# Altium footprint library PCBLib.PcbLib: 168 footprints (part 4 of 11)
Each footprint in its own frame and in the unit in brackets; x right, y up, seen from the top. Pads: shape width x height; smd on the part's side, far side on the other; paste and mask are expansions set on the pad; w line width, h text height; cw(c..) or ccw(c..) is an arc to the next point about the centre after c.
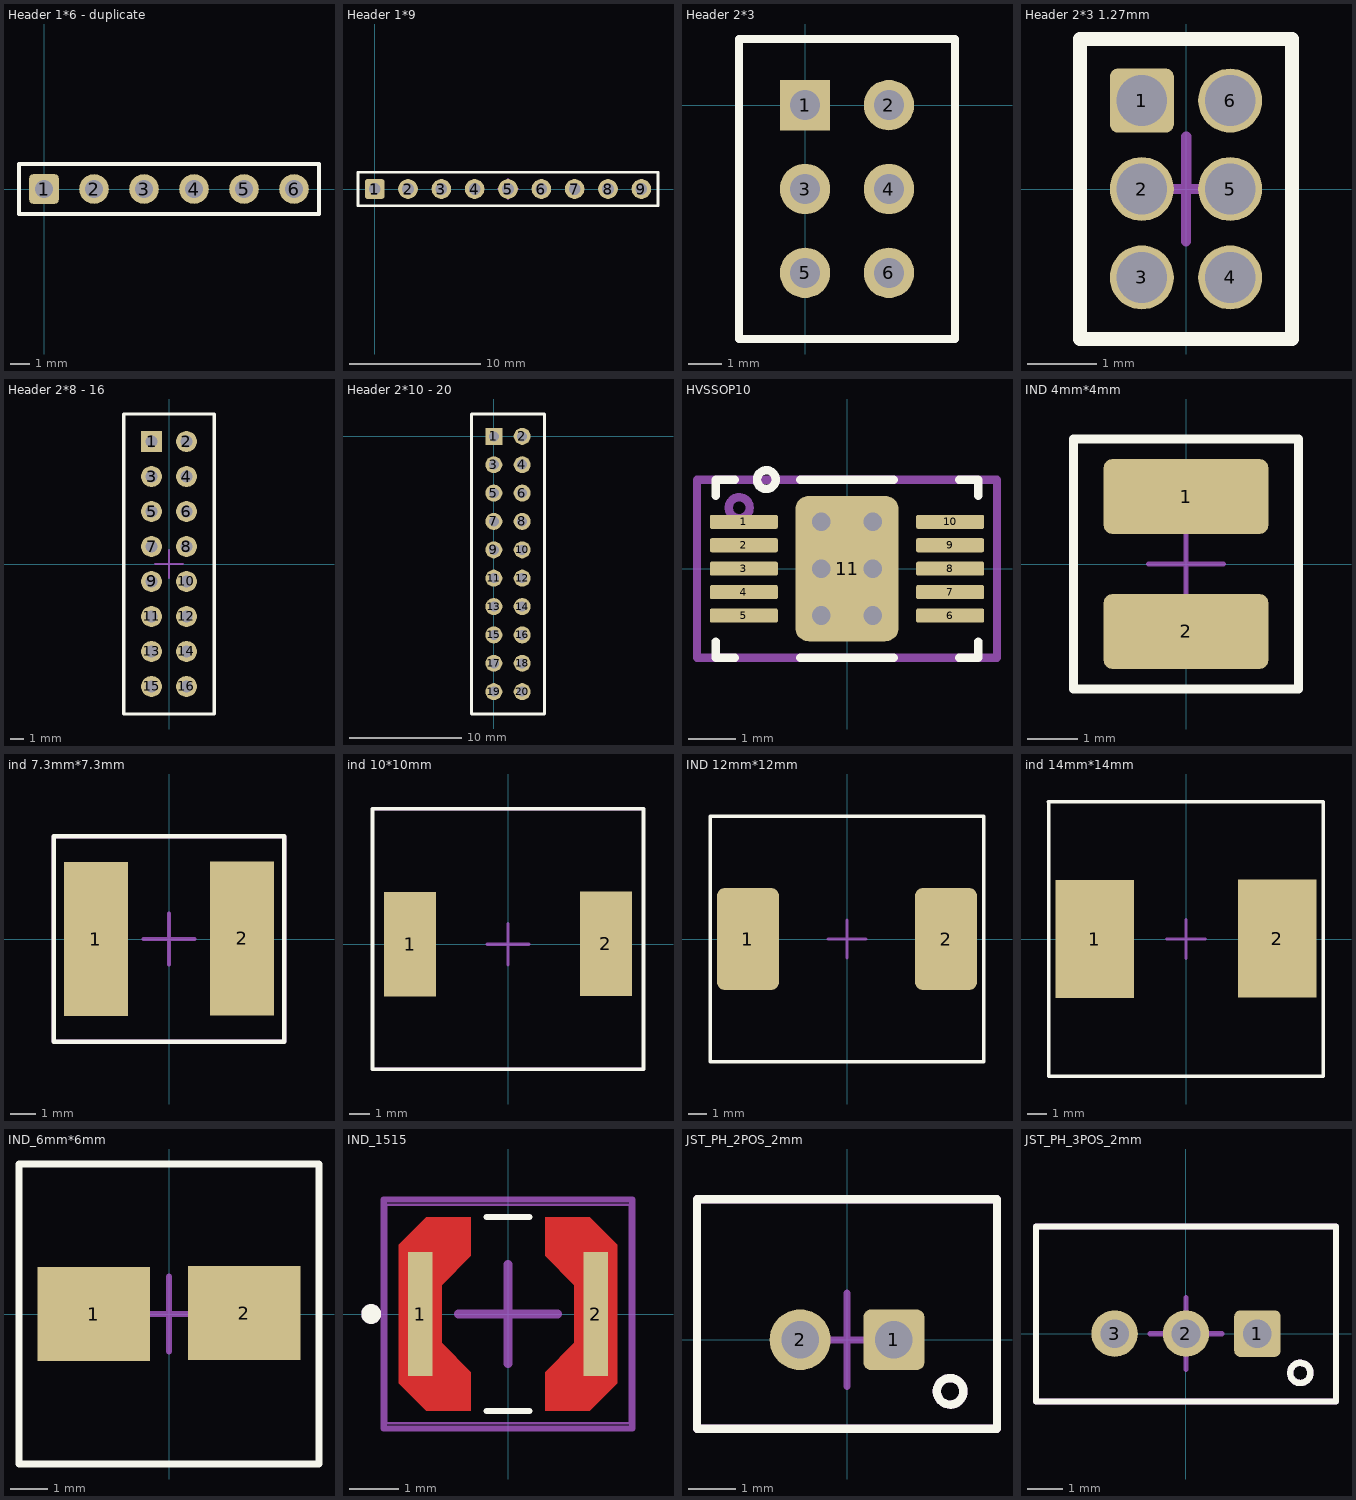
[diagram p3: the footprints below, top view; thin cyan lines are the x and y axes]

## Header 1*6 - duplicate [mm]
pads (6):
  rrect25% 1.5x1.5 hole 0.9 mask+0.05: 1(0,0)
  round 1.5 hole 0.9 mask+0.05: 2(2.54,0) 3(5.08,0) 4(7.62,0) 5(10.16,0) 6(12.7,0)
Top Overlay:
  lines w0.2: -1.27,-1.27 -1.27,1.27 13.97,1.27 13.97,-1.27 -1.27,-1.27

## Header 1*9 [mm]
pads (9):
  rrect25% 1.5x1.5 hole 0.9 mask+0.05: 1(0,0)
  round 1.5 hole 0.9 mask+0.05: 2(2.54,0) 3(5.08,0) 4(7.62,0) 5(10.16,0) 6(12.7,0) 7(15.24,0) 8(17.78,0) 9(20.32,0)
Top Overlay:
  lines w0.2: -1.27,-1.27 21.59,-1.27 21.59,1.27 -1.27,1.27 -1.27,-1.27
Bottom Overlay:
  lines w0.2: -1.27,-1.27 21.59,-1.27 21.59,1.27 -1.27,1.27 -1.27,-1.27
Top Assembly:
  lines w0.1: -1.27,-1.27 -1.27,1.27 21.59,1.27 21.59,-1.27 -1.27,-1.27
Bottom Assembly:
  lines w0.1: -1.27,-1.27 -1.27,1.27 21.59,1.27 21.59,-1.27 -1.27,-1.27
Top Component Center:
  lines w0.15: 9.41,0 10.16,0 ; 10.16,-0.75 10.16,0 ; 10.16,0.75 10.16,0 ; 10.91,0 10.16,0
Bottom Component Center:
  lines w0.15: 9.41,0 10.16,0 ; 10.16,-0.75 10.16,0 ; 10.16,0.75 10.16,0 ; 10.91,0 10.16,0
Top Courtyard:
  lines w0.1: -1.27,-1.27 21.59,-1.27 21.59,1.27 -1.27,1.27 -1.27,-1.27
Bottom Courtyard:
  lines w0.1: -1.27,-1.27 21.59,-1.27 21.59,1.27 -1.27,1.27 -1.27,-1.27
Top Designator:
  text ".Designator" at 6.351,-0.254 h0.76

## Header 2*3 [mil]
pads (6):
  rect 60x60 hole 35.43: 1(0,0)
  round 60 hole 35.43: 2(100,0) 3(0,-100) 4(100,-100) 5(0,-200) 6(100,-200)
Top Overlay:
  lines w10: -78.74,-278.74 178.74,-278.74 178.74,78.74 -78.74,78.74 -78.74,-278.74

## Header 2*3 1.27mm [mm]
pads (6):
  rrect25% 0.92x0.92 hole 0.73 mask+0.05: 1(-0.635,1.27)
  round 0.92 hole 0.73 mask+0.05: 2(-0.635,0) 3(-0.635,-1.27) 4(0.635,-1.27) 5(0.635,0) 6(0.635,1.27)
Top Overlay:
  lines w0.2: -1.52,-2.155 -1.52,2.155 1.52,2.155 1.52,-2.155 -1.52,-2.155
Bottom Overlay:
  lines w0.2: -1.52,-2.155 -1.52,2.155 1.52,2.155 1.52,-2.155 -1.52,-2.155
Top Assembly:
  lines w0.1: -1.52,-2.155 1.52,-2.155 1.52,2.155 -1.52,2.155 -1.52,-2.155
Bottom Assembly:
  lines w0.1: -1.52,-2.155 1.52,-2.155 1.52,2.155 -1.52,2.155 -1.52,-2.155
Top Component Center:
  lines w0.15: -0.749,0 0.001,0 ; 0,-0.75 0,0 ; 0.001,0.75 0.001,0 ; 0.751,0 0.001,0
Bottom Component Center:
  lines w0.15: -0.75,0 0,0 ; 0,-0.75 0,0 ; 0,0.75 0,0 ; 0.75,0 0,0
Top Courtyard:
  lines w0.1: -1.52,-2.155 -1.52,2.155 1.52,2.155 1.52,-2.155 -1.52,-2.155
Bottom Courtyard:
  lines w0.1: -1.52,-2.155 -1.52,2.155 1.52,2.155 1.52,-2.155 -1.52,-2.155
Top Designator:
  text ".Designator" at -3.809,-0.254 h0.76

## Header 2*8 - 16 [mil]
pads (16):
  rect 60x60 hole 35.43: 1(-50,350)
  round 60 hole 35.43: 2(50,350) 3(-50,250) 4(50,250) 5(-50,150) 6(50,150) 7(-50,50) 8(50,50) 9(-50,-50) 10(50,-50) 11(-50,-150) 12(50,-150) 13(-50,-250) 14(50,-250) 15(-50,-350) 16(50,-350)
Top Overlay:
  lines w10: -128.74,-428.74 128.74,-428.74 128.74,428.74 -128.74,428.74 -128.74,-428.74
Top Assembly:
  lines w7.09: -128.74,-428.74 128.74,-428.74 128.74,428.74 -128.74,428.74 -128.74,-428.74
Top Component Center:
  lines w7.09: -39.37,0 39.37,0 ; 0,-39.37 0,39.37
Top Courtyard:
  lines w1.97: -128.74,-428.74 128.74,-428.74 128.74,428.74 -128.74,428.74 -128.74,-428.74
Top Designator:
  text ".Designator" at -9.72,149.95 h30

## Header 2*10 - 20 [mil]
pads (20):
  rect 60x60 hole 35.43: 1(0,0)
  round 60 hole 35.43: 2(100,0) 3(0,-100) 4(100,-100) 5(0,-200) 6(100,-200) 7(0,-300) 8(100,-300) 9(0,-400) 10(100,-400) 11(0,-500) 12(100,-500) 13(0,-600) 14(100,-600) 15(0,-700) 16(100,-700) 17(0,-800) 18(100,-800) 19(0,-900) 20(100,-900)
Top Overlay:
  lines w10: -78.74,-978.74 -78.74,78.74 178.74,78.74 178.74,-978.74 -78.74,-978.74

## HVSSOP10 [mm]
pads (11):
  rrect25% 1.45x0.3 smd mask+0.05: 1(-2.2,1) 2(-2.2,0.5) 3(-2.2,0) 4(-2.2,-0.5) 5(-2.2,-1) 6(2.2,-1) 7(2.2,-0.5) 8(2.2,0) 9(2.2,0.5) 10(2.2,1)
  rrect25% 2.2x3.1 smd paste-2539.97 mask+0.05: 11(0,0)
via -0.55,0 diameter 0.65 hole 0.4
via 0.55,0 diameter 0.65 hole 0.4
via 0.55,1 diameter 0.65 hole 0.4
via -0.55,1 diameter 0.65 hole 0.4
via -0.55,-1 diameter 0.65 hole 0.4
via 0.55,-1 diameter 0.65 hole 0.4
Top Overlay:
  circle w0.18: c-1.721,1.9 r0.2
  lines w0.18: -2.8,-1.553 -2.8,-1.9 -2.39,-1.9 ; -2.8,1.553 -2.8,1.9 -2.39,1.9 ; -1,-1.9 1,-1.9 ; -1,1.9 1,1.9 ; 2.39,-1.9 2.8,-1.9 2.8,-1.553 ; 2.39,1.9 2.8,1.9 2.8,1.553
Top Paste:
  region: -0.915,-0.853 -0.915,0.853 -0.915,0.872 -0.901,0.905 -0.875,0.931 -0.842,0.945 -0.823,0.945 0.823,0.945 0.842,0.945 0.875,0.931 0.901,0.905 0.915,0.872 0.915,0.853 0.915,-0.853 0.915,-0.872 0.901,-0.905 0.875,-0.931 0.842,-0.945 0.823,-0.945 -0.823,-0.945 -0.842,-0.945 -0.875,-0.931 -0.901,-0.905 -0.915,-0.872
Top Assembly:
  circle w0.18: c-2.3,1.3 r0.224
  lines w0.18: -3.2,-1.9 -3.2,1.9 3.2,1.9 3.2,-1.9 -3.2,-1.9
Top Component Center:
  lines w0.18: -1,0 1,0 ; 0,-1 0,1
Top Courtyard:
  lines w0.05: -3.2,-1.9 -3.2,1.9 3.2,1.9 3.2,-1.9 -3.2,-1.9
Top Designator:
  text ".Designator" at -3.809,-0.254 h0.76
3D body "DGQ0010D.stp": height 0.96, standoff 0, extent -2.463,-1.5 2.463,1.5

## IND 4mm*4mm [mm] "744031004"
pads (2):
  rrect25% 3.3x1.5 smd mask+0.05: 1(0,1.35) 2(0,-1.35)
Top Overlay:
  lines w0.18: -2.25,-2.5 2.25,-2.5 2.25,2.5 -2.25,2.5 -2.25,-2.5
Top Assembly:
  lines w0.1: -2.25,-2.5 2.25,-2.5 2.25,2.5 -2.25,2.5 -2.25,-2.5
Top Component Center:
  lines w0.1: -0.75,0 0.75,0 ; 0,-0.75 0,0.75
Top Courtyard:
  lines w0.05: -2.25,-2.5 2.25,-2.5 2.25,2.5 -2.25,2.5 -2.25,-2.5
Top Designator:
  text ".Designator" at -3.809,-0.254 h0.76
3D body "744031001_Download_STP_WE-TPC-3816_rev1.stp": height 1.7, standoff 0.05, extent -1.9,-1.9 1.9,1.9

## ind 7.3mm*7.3mm [mm]
pads (2):
  rect 2.5x6 smd mask+0.05: 1(-2.85,0) 2(2.85,0.025)
Top Overlay:
  lines w0.18: -2.5,-4 2.5,-4 ; 2.5,-4 -4.5,-4 -4.5,4 -2.7,4 2.3,4 4.5,4 4.5,-4 2.5,-4
Top Assembly:
  lines w0.15: -4.5,-4 -4.5,4 4.5,4 4.5,-4 -4.5,-4
Top Component Center:
  lines w0.15: -1,0 1,0 ; 0,-1 0,1
Top Courtyard:
  lines w0.05: -4.5,-4 -4.5,4 4.5,4 4.5,-4 -4.5,-4
Top Designator:
  text ".Designator" at -3.809,-0.254 h0.76
3D body "SRR0735A.STP": height 3.5, standoff 0, extent -3.65,-3.65 3.65,3.65

## ind 10*10mm [mm]
pads (2):
  rect 2.5x5 smd mask+0.05: 1(-4.7,0) 2(4.7,0.025)
Top Overlay:
  lines w0.18: -6.5,-6 -6.5,6.5 -5.2,6.5 -0.2,6.5 6.5,6.5 6.5,-6 0.5,-6 -6.5,-6
Top Assembly:
  lines w0.15: -6.5,-6 6.5,-6 6.5,6.5 -6.5,6.5 -6.5,-6
Top Component Center:
  lines w0.15: -1,0 1,0 ; 0,-1 0,1
Top Courtyard:
  lines w0.05: -6.5,-6 6.5,-6 6.5,6.5 -6.5,6.5 -6.5,-6
Top Designator:
  text ".Designator" at -3.809,-0.254 h0.76
3D body "Coilcraft-MSS1048.STEP": height 5, standoff -0.1, extent -5.15,-5.1 5.15,5.1

## IND 12mm*12mm [mm]
pads (2):
  rrect25% 3.3x5.4 smd mask+0.05: 1(-5.25,0) 2(5.25,0)
Top Overlay:
  lines w0.18: -7.25,-6.5 7.25,-6.5 7.25,6.5 -7.25,6.5 -7.25,-6.5
Top Assembly:
  lines w0.15: -7.25,-6.5 -7.25,6.5 7.25,6.5 7.25,-6.5 -7.25,-6.5
Top Component Center:
  lines w0.15: -1,0 1,0 ; 0,-1 0,1
Top Courtyard:
  lines w0.05: -7.25,-6.5 -7.25,6.5 7.25,6.5 7.25,-6.5 -7.25,-6.5
Top Designator:
  text ".Designator" at -3.809,-0.254 h0.76
3D body "7447707220.stp": height 8, standoff 0, extent -6,-6 6,6

## ind 14mm*14mm [mm]
pads (2):
  rect 4x6 smd mask+0.05: 1(-4.65,0) 2(4.65,0.025)
Top Overlay:
  lines w0.2: -7.014,7 -2.714,7 2.286,7 6.986,7 ; -7,7 -7,-7 -0.5,-7 7,-7 7,7
Top Assembly:
  lines w0.15: -7,-7 7,-7 7,7 -7,7 -7,-7
Top Component Center:
  lines w0.15: -1,0 1,0 ; 0,-1 0,1
Top Courtyard:
  lines w0.05: -7,-7 7,-7 7,7 -7,7 -7,-7
Top Designator:
  text ".Designator" at -3.809,-0.254 h0.76
3D body "74456147.stp": height 5, standoff 0, extent -6.35,-5 6.35,5

## IND_6mm*6mm [mm] "SRP5030T-5R6M"
pads (2):
  rect 3x2.5 smd mask+0.05: 1(-2,0) 2(2,0.025)
Top Overlay:
  lines w0.2: -4,-4 -3.5,-4 4,-4 4,4 -4,4 -4,-4
Top Assembly:
  lines w0.15: -4,-4 -4,4 4,4 4,-4 -4,-4
Top Component Center:
  lines w0.15: -1,0 1,0 ; 0,-1 0,1
Top Courtyard:
  lines w0.05: -4,-4 -4,4 4,4 4,-4 -4,-4
Top Designator:
  text ".Designator" at -3.809,-0.254 h0.76
3D body "SRP5030T-5R6M.stp": height 3, standoff 0, extent -2.85,-2.6 2.85,2.6

## IND_1515 [mm]
pads (2):
  rect 0.5x2.5 smd paste-2 mask+0: 1(-1.765,0) 2(1.765,0)
Top Layer:
  region: -0.75,1.17 -1.33,0.575 -1.33,-0.575 -0.75,-1.17 -0.75,-1.945 -1.64,-1.945 -2.2,-1.395 -2.2,1.395 -1.64,1.945 -0.75,1.945
  region: 2.2,1.395 2.2,-1.395 1.64,-1.945 0.75,-1.945 0.75,-1.17 1.33,-0.575 1.33,0.575 0.75,1.17 0.75,1.945 1.64,1.945
Top Overlay:
  circle w0.2: c-2.75,0 r0.1
  lines w0.127: -0.43,-1.95 0.43,-1.95 ; -0.43,1.95 0.43,1.95
Top Paste:
  region: -0.75,1.17 -1.33,0.575 -1.33,-0.575 -0.75,-1.17 -0.75,-1.945 -1.64,-1.945 -2.2,-1.395 -2.2,1.395 -1.64,1.945 -0.75,1.945
  region: 2.2,1.395 2.2,-1.395 1.64,-1.945 0.75,-1.945 0.75,-1.17 1.33,-0.575 1.33,0.575 0.75,1.17 0.75,1.945 1.64,1.945
Top Solder:
  region: -0.65,1.129 -1.23,0.534 -1.23,-0.534 -0.65,-1.129 -0.65,-2.045 -1.681,-2.045 -2.3,-1.437 -2.3,1.437 -1.681,2.045 -0.65,2.045
  region: 2.3,1.437 2.3,-1.437 1.681,-2.045 0.65,-2.045 0.65,-1.129 1.23,-0.534 1.23,0.534 0.65,1.129 0.65,2.045 1.681,2.045
Top Assembly:
  circle w0.2: c-2.75,0 r0.1
  lines w0.127: -2.5,-2.3 2.5,-2.3 2.5,2.3 -2.5,2.3 -2.5,-2.3
Top Component Center:
  lines w0.18: -1,0 1,0 ; 0,-1 0,1
Top Courtyard:
  lines w0.05: -2.45,-2.2 2.45,-2.2 2.45,2.2 -2.45,2.2 -2.45,-2.2
Top Designator:
  text ".Designator" at -3.809,-0.254 h0.76
3D body "LPS4018-223MRC.stp": height 1.73, standoff 0, extent -1.95,-1.95 1.95,1.95

## JST_PH_2POS_2mm [mm]
pads (2):
  rrect25% 1.3x1.3 hole 0.8 mask+0.05: 1(1,0)
  round 1.3 hole 0.8 mask+0.05: 2(-1,0)
Top Overlay:
  circle w0.18: c2.2,-1.1 r0.283
  lines w0.18: -3.2,-1.9 -3.2,3 3.2,3 3.2,-1.9 -3.2,-1.9
Top Assembly:
  circle w0.18: c2.2,-1.1 r0.283
  lines w0.18: -3.2,-1.9 3.2,-1.9 3.2,3 -3.2,3 -3.2,-1.9
Top Component Center:
  lines w0.15: -1,0 1,0 ; 0,-1 0,1
Top Courtyard:
  lines w0.05: -3.2,-1.9 3.2,-1.9 3.2,3 -3.2,3 -3.2,-1.9
Top Designator:
  text ".Designator" at -3.809,-0.254 h0.76
3D body "step_temp.STEP": height 6, standoff -3.4, extent -2.95,-1.65 2.95,2.85

## JST_PH_3POS_2mm [mm]
pads (3):
  rrect25% 1.3x1.3 hole 0.8 mask+0.05: 1(2,0)
  round 1.3 hole 0.8 mask+0.05: 2(0,0) 3(-2,0)
Top Overlay:
  circle w0.18: c3.2,-1.1 r0.283
  lines w0.18: -4.2,-1.9 4.2,-1.9 4.2,3 -4.2,3 -4.2,-1.9
Top Assembly:
  circle w0.18: c3.2,-1.1 r0.283
  lines w0.18: -4.2,-1.9 -4.2,3 4.2,3 4.2,-1.9 -4.2,-1.9
Top Component Center:
  lines w0.15: -1,0 1,0 ; 0,-1 0,1
Top Courtyard:
  lines w0.05: -4.2,-1.9 -4.2,3 4.2,3 4.2,-1.9 -4.2,-1.9
Top Designator:
  text ".Designator" at -3.809,-0.254 h0.76
3D body "B3B-PH-K-S--3DModel-STEP-56544.STEP": height 6, standoff -3.4, extent -3.95,-1.692 3.95,2.808